# Altium schematic symbol library 232转CAN.SchLib: 5 symbols
Pins are listed as number, name and electrical type; pins without a type are passive.

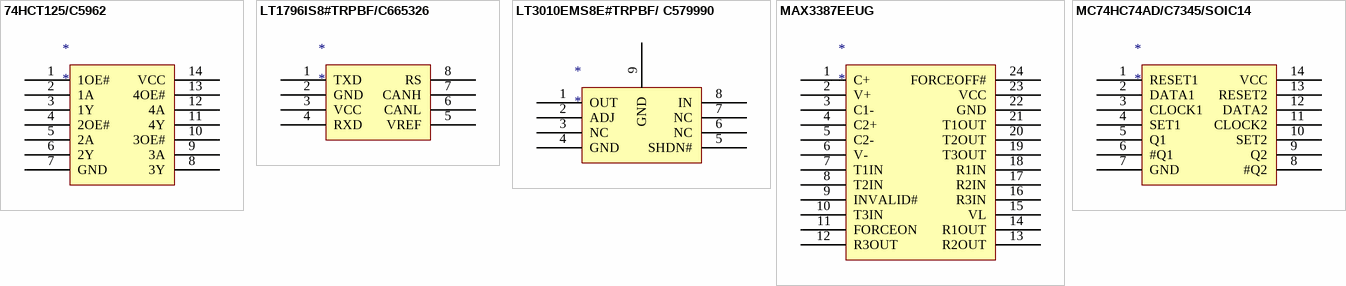
[diagram p0: symbols 74HCT125/C5962 to MC74HC74AD/C7345/SOIC14]

## 74HCT125/C5962
designator *
pins: 1 1OE#, 2 1A, 3 1Y, 4 2OE#, 5 2A, 6 2Y, 7 GND, 8 3Y, 9 3A, 10 3OE#, 11 4Y, 12 4A, 13 4OE#, 14 VCC

## LT1796IS8#TRPBF/C665326
designator *
pins: 1 TXD, 2 GND, 3 VCC, 4 RXD, 5 VREF, 6 CANL, 7 CANH, 8 RS

## LT3010EMS8E#TRPBF/ C579990
designator *
pins: 1 OUT, 2 ADJ, 3 NC, 4 GND, 5 SHDN#, 6  NC, 7 NC, 8 IN, 9 GND

## MAX3387EEUG
designator *
pins: 1 C+, 2 V+, 3 C1-, 4 C2+, 5 C2-, 6 V-, 7 T1IN, 8 T2IN, 9 INVALID#, 10 T3IN, 11 FORCEON, 12 R3OUT, 13 R2OUT, 14 R1OUT, 15 VL, 16 R3IN, 17 R2IN, 18 R1IN, 19 T3OUT, 20 T2OUT, 21 T1OUT, 22 GND, 23 VCC, 24 FORCEOFF#

## MC74HC74AD/C7345/SOIC14
designator *
pins: 1 RESET1, 2 DATA1, 3 CLOCK1, 4 SET1, 5 Q1, 6 #Q1, 7 GND, 8 #Q2, 9 Q2, 10 SET2, 11 CLOCK2, 12 DATA2, 13 RESET2, 14 VCC